# Altium footprint library Quartz Crystals.PcbLib: 53 footprints (part 4 of 4)
Each footprint in its own frame and in the unit in brackets; x right, y up, seen from the top. Pads: shape width x height; smd on the part's side, far side on the other; paste and mask are expansions set on the pad; w line width, h text height; cw(c..) or ccw(c..) is an arc to the next point about the centre after c.
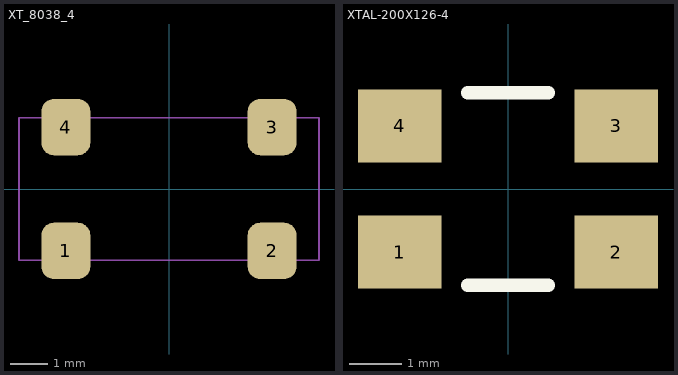
[diagram p3: the footprints below, top view; thin cyan lines are the x and y axes]

## XT_5032_4 [mm]
height 1.2
3D body "User Library-CRYSTALSMD5X32.STEP": height 1, standoff 0, extent -2.5,-1.6 2.5,1.6

## XT_8038_4 [mm]
height 2.54
pads (4):
  rrect50% 1.3x1.5 smd: 1(-2.75,-1.65) 2(2.75,-1.65) 3(2.75,1.65) 4(-2.75,1.65)
Mechanical 13:
  lines w0.051: -4,-1.9 -4,1.9 4,1.9 4,-1.9 -4,-1.9
3D body "SW3dPS-ZM206.STEP": height 2.43, standoff -0.1, extent -4.012,-1.9 3.988,1.9

## XT_HC49S_D [mm]
height 1.2
3D body "SW3dPS-HP49US.STEP": height 3.5, standoff -4, extent -5.777,-2.186 5.573,2.464

## XT_HC49S_S [mm]
height 1.2
3D body "User Library-Crystal HC49_US-SM.STEP": height 4.3, standoff 0, extent -6.4,-2.415 6.4,2.415

## XTAL-200X126-4 [mil]
pads (4):
  rect 63x55 smd: 1(-81.5,-47.5) 2(81.5,-47.5) 3(81.5,47.5) 4(-81.5,47.5)
Top Overlay:
  lines w10: -30.5,-72.5 30.5,-72.5 ; -30.5,72.5 30.5,72.5
3D body: height 39.37, standoff 0, extent -114.46,-46.87 113.11,46.73
3D body: height 19.68, standoff 0, extent -97.83,24.91 -62.28,51.12
3D body: height 19.68, standoff 0, extent 67.17,24.91 102.72,51.12
3D body: height 19.68, standoff 0, extent -103.01,-51.67 -67.46,-25.46
3D body: height 19.68, standoff 0, extent 62.19,-52.22 97.74,-26.01